# Altium footprint library LED.PcbLib: 29 footprints (part 1 of 2)
Each footprint in its own frame and in the unit in brackets; x right, y up, seen from the top. Pads: shape width x height; smd on the part's side, far side on the other; paste and mask are expansions set on the pad; w line width, h text height; cw(c..) or ccw(c..) is an arc to the next point about the centre after c.
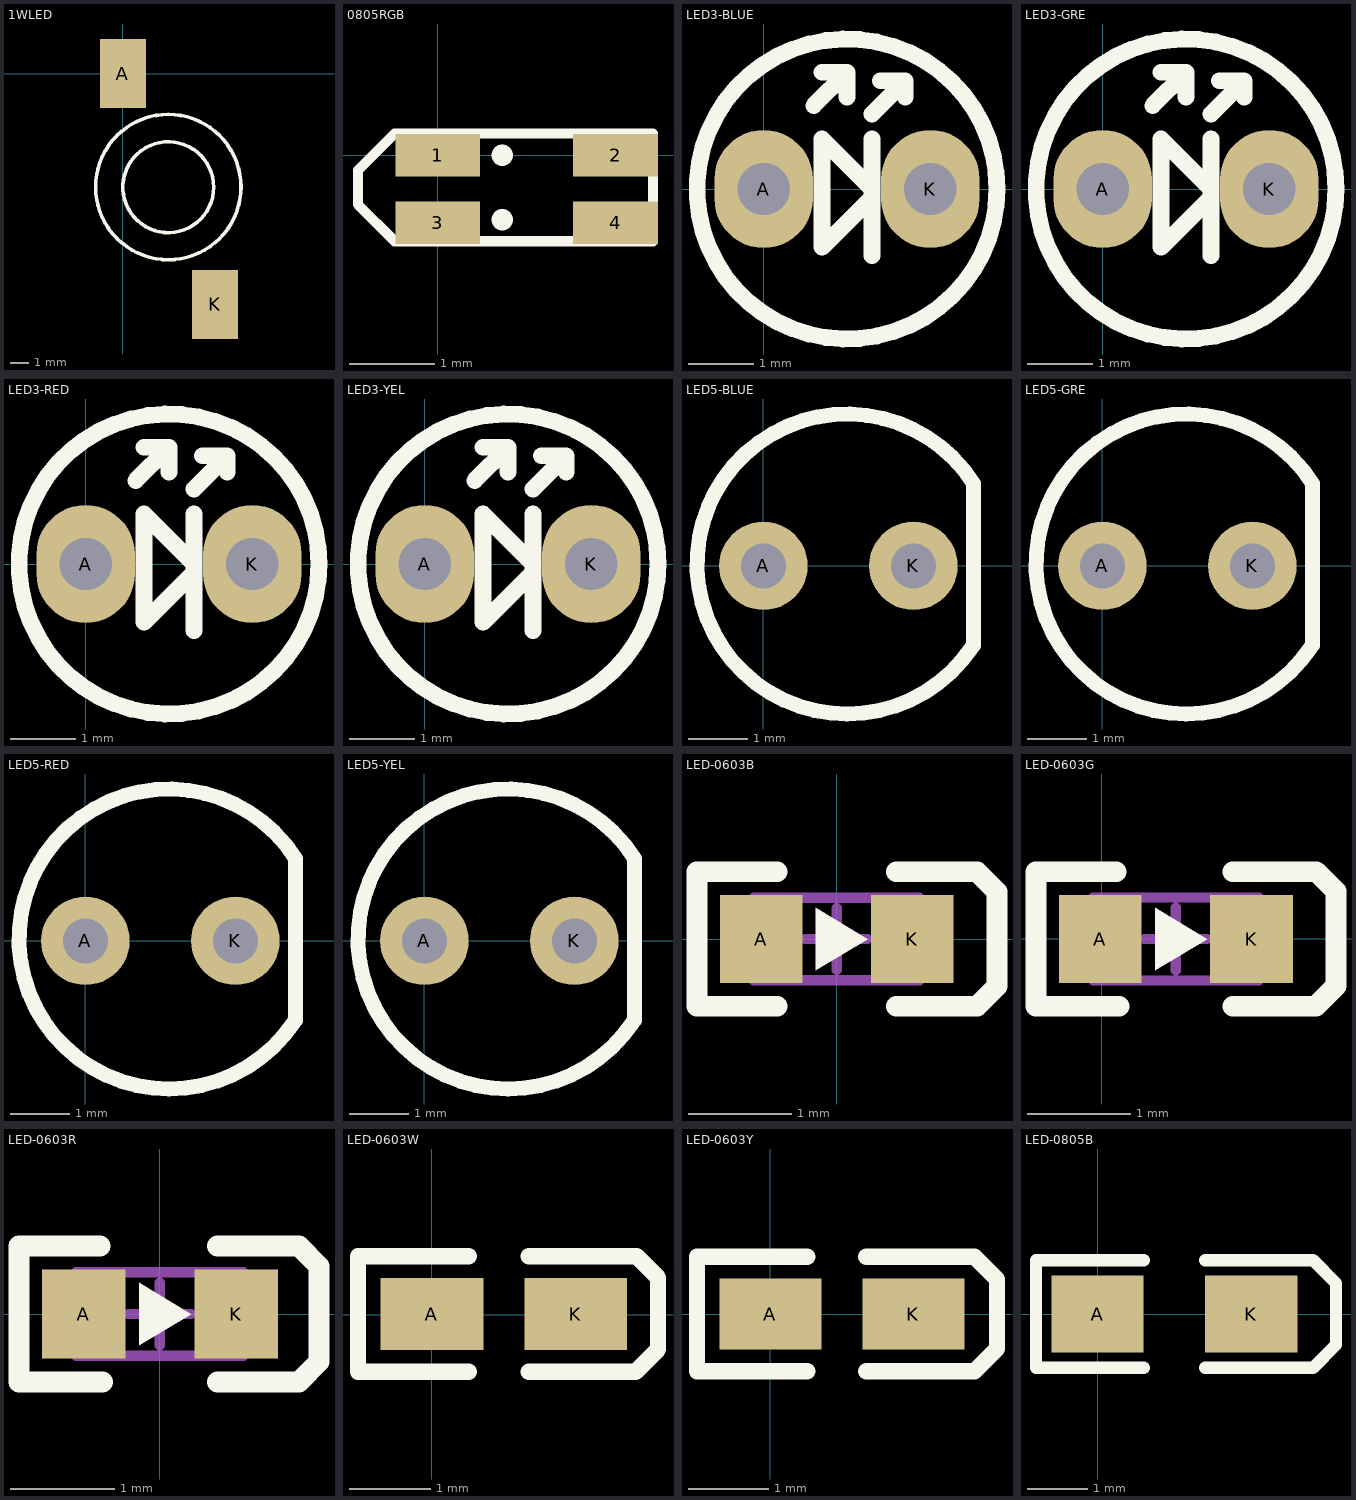
[diagram p0: the footprints below, top view; thin cyan lines are the x and y axes]

## 1WLED [mm]
pads (2):
  rect 2.54x3.81 smd: A(0,0) K(5.08,-12.7)
Top Overlay:
  circle w0.2: c2.5,-6.242 r4
  circle w0.2: c2.5,-6.25 r2.5
3D body: height 0.5, standoff 0.25, extent -1,-1.5 1,1.5
3D body: height 0.5, standoff 0.25, extent 4,-14.25 6,-11
3D body: height 5.55, standoff 0.55, extent 0.026,-8.729 5,-3.75
3D body: height 3.25, standoff 0.25, extent -1.468,-10.234 6.5,-2.25
3D body: height 0.89, standoff 0.25, extent 4,-11 6,-8
3D body: height 0.89, standoff 0.25, extent -1,-5.25 1,-1.5

## 0805RGB [mm]
height 10
pads (4):
  rect 1x0.5 smd: 1(0,0) 2(2.1,0) 3(0,-0.8) 4(2.1,-0.8)
Top Overlay:
  circle w0.254: c0.762,0 r0
  circle w0.254: c0.762,-0.762 r0
  lines w0.12: -0.94,-0.584 -0.508,-1.016 0,-1.016 2.032,-1.016 2.54,-1.016 2.54,0.254 2.032,0.254 0,0.254 -0.508,0.254 -0.94,-0.178 -0.94,-0.584

## LED3-BLUE [mm]
pads (2):
  oval 1.5x1.8 hole 0.8: A(0,0) K(2.54,0)
Top Overlay:
  circle w0.254: c1.27,0 r2.286
  lines w0.254: 0.762,1.27 1.27,1.778 ; 0.889,1.778 1.27,1.778 ; 1.27,1.397 1.27,1.778 ; 1.651,-1.016 1.651,0.762 ; 1.651,1.143 2.159,1.651 ; 1.778,1.651 2.159,1.651 ; 2.159,1.397 2.159,1.651 ; 0.889,-0.889 0.889,0.762 1.651,0 1.651,-0.127 0.889,-0.889
3D body: height 5.2, standoff -2, extent -0.73,-1.998 2.79,1.998

## LED3-GRE [mm]
pads (2):
  oval 1.5x1.8 hole 0.8: A(0,0) K(2.54,0)
Top Overlay:
  circle w0.254: c1.27,0 r2.286
  lines w0.254: 0.762,1.27 1.27,1.778 ; 0.889,1.778 1.27,1.778 ; 1.27,1.397 1.27,1.778 ; 1.651,-1.016 1.651,0.762 ; 1.651,1.143 2.159,1.651 ; 1.778,1.651 2.159,1.651 ; 2.159,1.397 2.159,1.651 ; 0.889,-0.889 0.889,0.762 1.651,0 1.651,-0.127 0.889,-0.889
3D body: height 5.2, standoff -2, extent -0.74,-2.003 2.78,1.993

## LED3-RED [mm]
pads (2):
  oval 1.5x1.8 hole 0.8: A(0,0) K(2.54,0)
Top Overlay:
  circle w0.254: c1.27,0 r2.286
  lines w0.254: 0.762,1.27 1.27,1.778 ; 0.889,1.778 1.27,1.778 ; 1.27,1.397 1.27,1.778 ; 1.651,-1.016 1.651,0.762 ; 1.651,1.143 2.159,1.651 ; 1.778,1.651 2.159,1.651 ; 2.159,1.397 2.159,1.651 ; 0.889,-0.889 1.651,-0.127 1.651,0 0.889,0.762 0.889,-0.889
3D body: height 5.2, standoff -2, extent -0.74,-2.003 2.78,1.993

## LED3-YEL [mm]
pads (2):
  oval 1.5x1.8 hole 0.8: A(0,0) K(2.54,0)
Top Overlay:
  circle w0.254: c1.27,0 r2.286
  lines w0.254: 0.762,1.27 1.27,1.778 ; 0.889,1.778 1.27,1.778 ; 1.27,1.397 1.27,1.778 ; 1.651,-1.016 1.651,0.762 ; 1.651,1.143 2.159,1.651 ; 1.778,1.651 2.159,1.651 ; 2.159,1.397 2.159,1.651 ; 0.889,-0.889 0.889,0.762 1.651,0 1.651,-0.127 0.889,-0.889
3D body: height 5.2, standoff -2, extent -0.373,-1.91 3.147,2.086

## LED5-BLUE [mm]
pads (2):
  round 1.5 hole 0.762: A(0,0) K(2.54,0)
Top Overlay:
  lines w0.254: 3.528,-1.378 cw(c1.415,0.031) 3.556,1.397 3.556,-1.35
3D body: height 8.6, standoff -2, extent -1.58,-2.85 3.77,2.85

## LED5-GRE [mm]
pads (2):
  round 1.5 hole 0.762: A(0,0) K(2.54,0)
Top Overlay:
  lines w0.254: 3.528,-1.378 cw(c1.415,0.031) 3.556,1.397 3.556,-1.35
3D body: height 8.6, standoff -2, extent -1.58,-2.85 3.77,2.85

## LED5-RED [mm]
pads (2):
  round 1.5 hole 0.762: A(0,0) K(2.54,0)
Top Overlay:
  lines w0.254: 3.528,-1.378 cw(c1.415,0.031) 3.556,1.397 3.556,-1.35
3D body: height 8.6, standoff -2, extent -1.58,-2.85 3.77,2.85

## LED5-YEL [mm]
pads (2):
  round 1.5 hole 0.762: A(0,0) K(2.54,0)
Top Overlay:
  lines w0.254: 3.528,-1.378 cw(c1.415,0.031) 3.556,1.397 3.556,-1.35
3D body: height 8.6, standoff -2, extent -1.58,-2.85 3.77,2.85

## LED-0603B [mm]
pads (2):
  rect 0.8x0.85 smd: A(-0.73,0) K(0.73,0)
Top Overlay:
  region: 0.3,0 -0.2,0.3 -0.2,-0.3
  lines w0.2: -0.575,-0.65 -1.35,-0.65 -1.35,0.65 -0.575,0.65 ; 0.575,-0.65 1.35,-0.65 ; 0.575,0.65 1.35,0.65 ; 1.357,-0.65 1.549,-0.457 1.549,0.457 1.357,0.65
Mechanical 15:
  lines w0.1: -0.303,0 0.297,0 ; 0,-0.3 0,0.3 ; -0.8,-0.4 0.8,-0.4 0.8,0.4 -0.8,0.4 -0.8,-0.4
3D body: height 0.6, standoff 0, extent -0.81,-0.4 0.81,0.4

## LED-0603G [mm]
pads (2):
  rect 0.8x0.85 smd: A(-0.014,-0.003) K(1.446,-0.003)
Top Overlay:
  region: 1.016,-0.003 0.516,0.297 0.516,-0.303
  lines w0.2: 0.141,0.647 -0.634,0.647 -0.634,-0.653 0.166,-0.653 ; 1.266,-0.653 2.066,-0.653 ; 1.266,0.647 2.071,0.647 2.261,0.457 2.261,-0.457 2.068,-0.65
Mechanical 15:
  lines w0.1: 0.413,-0.003 1.013,-0.003 ; 0.716,-0.303 0.716,0.297 ; -0.084,-0.403 -0.084,0.397 1.516,0.397 1.516,-0.403 -0.084,-0.403
3D body: height 0.6, standoff 0, extent -0.094,-0.403 1.526,0.397

## LED-0603R [mm]
pads (2):
  rect 0.8x0.85 smd: A(-0.73,0) K(0.73,0)
Top Overlay:
  region: 0.3,0 -0.2,0.3 -0.2,-0.3
  lines w0.2: -0.575,0.65 -1.35,0.65 -1.35,-0.65 -0.55,-0.65 ; 0.55,-0.65 1.331,-0.65 1.524,-0.457 1.524,0.457 1.331,0.65 0.55,0.65
Mechanical 15:
  lines w0.1: -0.303,0 0.297,0 ; 0,-0.3 0,0.3 ; -0.8,-0.4 -0.8,0.4 0.8,0.4 0.8,-0.4 -0.8,-0.4
3D body: height 0.6, standoff 0, extent -0.81,-0.4 0.81,0.4

## LED-0603W [mil]
pads (2):
  rect 50x35 smd: A(0,0.26) K(70,0.26)
Top Overlay:
  lines w8: 18,-27.74 -36,-27.74 -36,-25.74 -36,28.26 -35,28.26 18,28.26 ; 47,-27.74 99.26,-27.74 110,-17 110,18 99.74,28.26 47,28.26
3D body: height 23.82, standoff -0.04, extent 3.5,-16 66.5,15.58

## LED-0603Y [mil]
pads (2):
  rect 50x35 smd: A(0,0) K(70,0)
Top Overlay:
  lines w8: 18,-28 -36,-28 -36,-26 -36,28 -35,28 18,28 ; 47,-28 100,-28 ; 47,28 100,28 111,17 111,-17 100.26,-27.74
3D body: height 23.82, standoff -0.04, extent 3.5,-16 66.5,15.83

## LED-0805B [mil]
pads (2):
  rect 60x50 smd: A(0,0) K(100,0)
Top Overlay:
  lines w8: 30,-35 -40,-35 -40,35 30,35 ; 70,-35 140,-35 155,-20 155,20 140,35 70,35
3D body: height 31.69, standoff -0.04, extent 10,-24.64 88.74,24.64